# EAGLE library part ARDUINO-MICRO (library MMC Eagle)
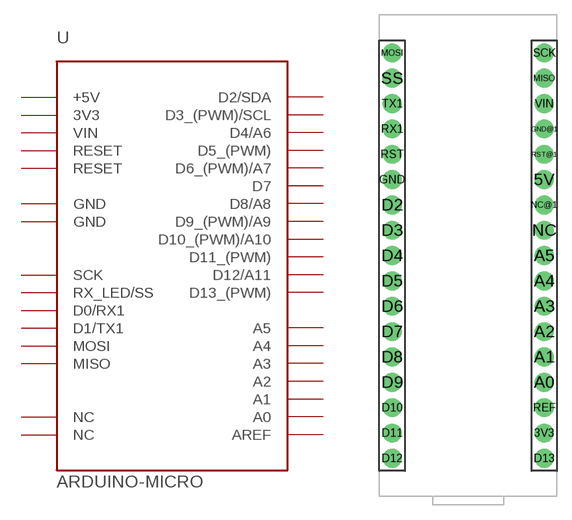
[diagram p22: symbol with the pads of ARDUINO_MICRO_HEADER; footprint ARDUINO_MICRO_HEADER]

Designator prefix -

## ARDUINO-MICRO  [ARDUINO_MICRO_HEADER]
3V3  3V3  pwr
5V  +5V  pwr
A0  A0
A1  A1
A2  A2
A3  A3
A4  A4
A5  A5
D2  D2/SDA
D3  D3_(PWM)/SCL
D4  D4/A6
D5  D5_(PWM)
D6  D6_(PWM)/A7
D7  D7
D8  D8/A8
D9  D9_(PWM)/A9
D10  D10_(PWM)/A10
D11  D11_(PWM)
D12  D12/A11
D13  D13_(PWM)
GND  GND  sup
GND@1  GND  sup
MISO  MISO
MOSI  MOSI
NC  NC  nc
NC@1  NC  nc
REF  AREF  in
RST  RESET  in
RST@1  RESET  in
RX1  D0/RX1  in
SCK  SCK  out
SS  RX_LED/SS
TX1  D1/TX1  out
VIN  VIN  in

## Footprint ARDUINO_MICRO_HEADER (pad centres in mm)
Description: Arduino Micro Header Footprint
drill 1.016 pad 1.88: 3V3 16.51,6.35; 5V 16.51,31.75; A0 16.51,11.43; A1 16.51,13.97; A2 16.51,16.51; A3 16.51,19.05; A4 16.51,21.59; A5 16.51,24.13; D2 1.27,29.21; D3 1.27,26.67; D4 1.27,24.13; D5 1.27,21.59; D6 1.27,19.05; D7 1.27,16.51; D8 1.27,13.97; D9 1.27,11.43; D10 1.27,8.89; D11 1.27,6.35; D12 1.27,3.81; D13 16.51,3.81; GND 1.27,31.75; GND@1 16.51,36.83; MISO 16.51,41.91; MOSI 1.27,44.45; NC 16.51,26.67; NC@1 16.51,29.21; REF 16.51,8.89; RST 1.27,34.29; RST@1 16.51,34.29; RX1 1.27,36.83; SCK 16.51,44.45; SS 1.27,41.91; TX1 1.27,39.37; VIN 16.51,39.37